# Altium footprint library SMD Button.PcbLib: 8 footprints
Each footprint in its own frame and in the unit in brackets; x right, y up, seen from the top. Pads: shape width x height; smd on the part's side, far side on the other; paste and mask are expansions set on the pad; w line width, h text height; cw(c..) or ccw(c..) is an arc to the next point about the centre after c.
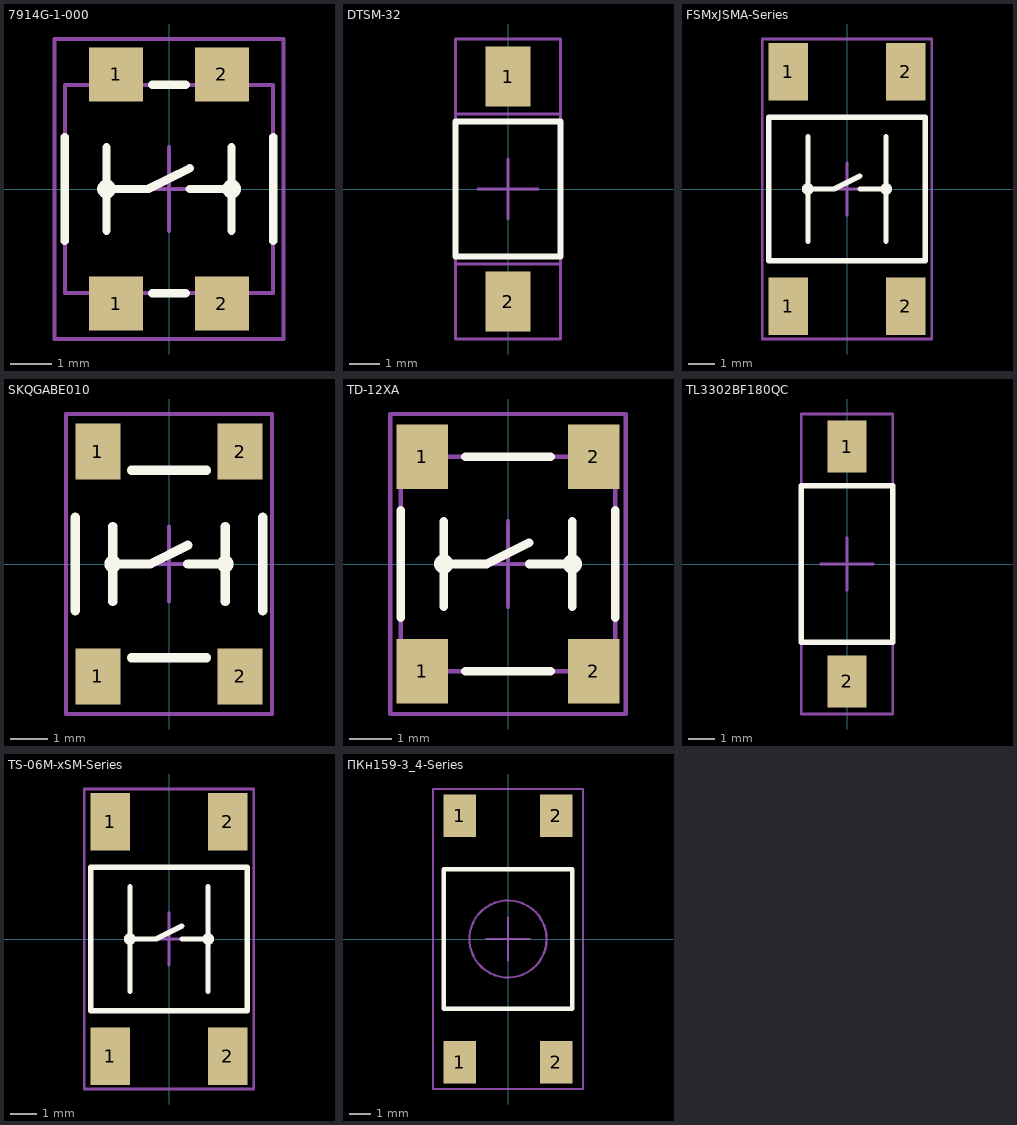
[diagram p0: the footprints below, top view; thin cyan lines are the x and y axes]

## 7914G-1-000 [mm]
pads (4):
  rect 1.3x1.3 smd: 1(-1.27,-2.75) 1(-1.27,2.75) 2(1.27,-2.75) 2(1.27,2.75)
Top Overlay:
  circle w0.25: c1.5,0 r0.1
  circle w0.25: c-1.5,0 r0.1
  lines w0.2: -2.5,-1.25 -2.5,1.25 ; -1.5,-1 -1.5,1 ; -1.5,0 -0.5,0 0.5,0.5 ; -0.4,-2.5 0.4,-2.5 ; -0.4,2.5 0.4,2.5 ; 0.5,0 1.5,0 ; 1.5,-1 1.5,1 ; 2.5,-1.25 2.5,1.25
Mechanical 7:
  lines w0.05: -2.75,-3.6 2.75,-3.6 2.75,3.6 -2.75,3.6 -2.75,-3.6
  text ".Designator" at -1.5,-0.5 h1.5
Mechanical 13:
  lines w0.1: -2.5,-2.5 2.5,-2.5 2.5,2.5 -2.5,2.5 -2.5,-2.5
Mechanical 15:
  lines w0.1: -1,0 1,0 ; 0,-1 0,1 ; -2.75,-3.6 2.75,-3.6 2.75,3.6 -2.75,3.6 -2.75,-3.6
3D body "CircuitWorks-TACT SWITCH 1_5 (TD-12XA).step": height 1.5, standoff -0.05, extent -2.45,-2.5 2.45,2.5

## DTSM-32 [mm] "1 contact, Surface, 0.05A, 250V, H=5mm"
height 5
pads (2):
  rect 1.5x2 smd: 1(0,3.75) 2(0,-3.75)
Top Overlay:
  lines w0.2: -1.75,-2.25 1.75,-2.25 1.75,2.25 -1.75,2.25 -1.75,-2.25
Mechanical 7:
  lines w0.05: -1.75,-5 1.75,-5 1.75,5 -1.75,5 -1.75,-5
  text ".Designator" at -1.5,-0.5 h1.5
Mechanical 13:
  lines w0.1: -1.75,-2.5 1.75,-2.5 1.75,2.5 -1.75,2.5 -1.75,-2.5
Mechanical 15:
  lines w0.1: -1,0 1,0 ; 0,-1 0,1 ; -1.75,-5 -1.75,5 1.75,5 1.75,-5 -1.75,-5
3D body "User Library-dtsm-32n.step": height 5.5, standoff 0, extent -1.75,-4 1.75,4

## FSMxJSMA-Series [mm] "Surface, Tactile Swith, 1 contact group, 0.05A 12V"
height 6
pads (4):
  rect 1.5x2.2 smd: 1(-2.25,-4.5) 1(-2.25,4.5) 2(2.25,-4.5) 2(2.25,4.5)
Top Overlay:
  circle w0.25: c-1.5,0 r0.1
  circle w0.25: c1.5,0 r0.1
  lines w0.2: -1.5,-2 -1.5,2 ; -1.5,0 -0.5,0 0.5,0.5 ; 0.5,0 1.5,0 ; 1.5,-2 1.5,2 ; -3,-2.75 -3,2.75 3,2.75 3,-2.75 -3,-2.75
Mechanical 7:
  lines w0.05: -3.25,-5.75 3.25,-5.75 3.25,5.75 -3.25,5.75 -3.25,-5.75
  text ".Designator" at -1.5,-0.5 h1.5
Mechanical 13:
  lines w0.1: -3,-2.75 -3,2.75 3,2.75 3,-2.75 -3,-2.75
Mechanical 15:
  lines w0.1: -1,0 1,0 ; 0,-1 0,1 ; -3.25,-5.75 -3.25,5.75 3.25,5.75 3.25,-5.75 -3.25,-5.75
3D body "User Library-switch.step": height 5.01, standoff 0.01, extent -3,-4.5 3,4.5

## SKQGABE010 [mm]
height 1.5
pads (4):
  rect 1.2x1.5 smd: 1(-1.9,-3) 1(-1.9,3) 2(1.9,-3) 2(1.9,3)
Top Overlay:
  circle w0.25: c1.5,0 r0.1
  circle w0.25: c-1.5,0 r0.1
  lines w0.25: -2.5,-1.25 -2.5,1.25 ; -1.5,-1 -1.5,1 ; -1.5,0 -0.5,0 0.5,0.5 ; -1,-2.5 1,-2.5 ; -1,2.5 1,2.5 ; 0.5,0 1.5,0 ; 1.5,-1 1.5,1 ; 2.5,-1.25 2.5,1.25
Mechanical 7:
  lines w0.05: -2.75,-4 2.75,-4 2.75,4 -2.75,4 -2.75,-4
  text ".Designator" at -1.5,-0.5 h1.5
Mechanical 15:
  lines w0.1: -1,0 1,0 ; 0,-1 0,1 ; -2.75,-4 2.75,-4 2.75,4 -2.75,4 -2.75,-4
3D body "User Library-button1.step": height 1.42, standoff 0.02, extent -2.65,-3.2 2.65,3.203

## TD-12XA [mm]
pads (4):
  rect 1.2x1.5 smd: 1(-2,-2.5) 1(-2,2.5) 2(2,-2.5) 2(2,2.5)
Top Overlay:
  circle w0.25: c1.5,0 r0.1
  circle w0.25: c-1.5,0 r0.1
  lines w0.2: -2.5,-1.25 -2.5,1.25 ; -1.5,-1 -1.5,1 ; -1.5,0 -0.5,0 0.5,0.5 ; -1,-2.5 1,-2.5 ; -1,2.5 1,2.5 ; 0.5,0 1.5,0 ; 1.5,-1 1.5,1 ; 2.5,-1.25 2.5,1.25
Mechanical 7:
  lines w0.05: -2.75,-3.5 2.75,-3.5 2.75,3.5 -2.75,3.5 -2.75,-3.5
  text ".Designator" at -1.5,-0.5 h1.5
Mechanical 13:
  lines w0.1: -2.5,-2.5 2.5,-2.5 2.5,2.5 -2.5,2.5 -2.5,-2.5
Mechanical 15:
  lines w0.1: -1,0 1,0 ; 0,-1 0,1 ; -2.75,-3.5 2.75,-3.5 2.75,3.5 -2.75,3.5 -2.75,-3.5
3D body "CircuitWorks-TACT SWITCH 1_5 (TD-12XA).step": height 1.5, standoff -0.05, extent -2.45,-2.5 2.45,2.5

## TL3302BF180QC [mm]
pads (2):
  rect 1.5x2 smd: 1(0,4.5) 2(0,-4.5)
Top Overlay:
  lines w0.2: -1.75,-3 1.75,-3 1.75,3 -1.75,3 -1.75,-3
Mechanical 7:
  lines w0.05: -1.75,-5.75 1.75,-5.75 1.75,5.75 -1.75,5.75 -1.75,-5.75
  text ".Designator" at -1.5,-0.5 h1.5
Mechanical 13:
  lines w0.1: -1.75,-3 -1.75,3 1.75,3 1.75,-3 -1.75,-3
Mechanical 15:
  lines w0.1: -1,0 1,0 ; 0,-1 0,1 ; -1.75,-5.75 -1.75,5.75 1.75,5.75 1.75,-5.75 -1.75,-5.75
3D body "User Library-TL3302BF180QC.step": height 5.01, standoff 0.01, extent -1.75,-5.2 1.75,5.2

## TS-06M-xSM-Series [mm] "Surface, Tactile Swith, 1 contact group, 0.05A 12V"
height 7
pads (4):
  rect 1.5x2.2 smd: 1(-2.25,-4.5) 1(-2.25,4.5) 2(2.25,-4.5) 2(2.25,4.5)
Top Overlay:
  circle w0.25: c1.5,0 r0.1
  circle w0.25: c-1.5,0 r0.1
  lines w0.2: -1.5,-2 -1.5,2 ; -1.5,0 -0.5,0 0.5,0.5 ; 0.5,0 1.5,0 ; 1.5,-2 1.5,2 ; -3,-2.75 3,-2.75 3,2.75 -3,2.75 -3,-2.75
Mechanical 7:
  lines w0.05: -3.25,-5.75 3.25,-5.75 3.25,5.75 -3.25,5.75 -3.25,-5.75
  text ".Designator" at -1.5,-0.5 h1.5
Mechanical 13:
  lines w0.1: -3,-2.75 3,-2.75 3,2.75 -3,2.75 -3,-2.75
Mechanical 15:
  lines w0.1: -1,0 1,0 ; 0,-1 0,1 ; -3.25,-5.75 3.25,-5.75 3.25,5.75 -3.25,5.75 -3.25,-5.75
3D body "User Library-SWT-34.step": height 7.33, standoff -0.02, extent -3,-5.177 3,5.177

## ПКн159-3_4-Series [mm]
height 7.2
pads (4):
  rect 1.5x2 smd: 1(-2.25,-5.75) 1(-2.25,5.75) 2(2.25,-5.75) 2(2.25,5.75)
Top Overlay:
  lines w0.2: -3,-3.25 3,-3.25 3,3.25 -3,3.25 -3,-3.25
Mechanical 7:
  lines w0.05: -3.5,-7 3.5,-7 3.5,7 -3.5,7 -3.5,-7
  text ".Designator" at -1.5,-0.5 h1.5
Mechanical 13:
  circle w0.1: c0,0 r1.8
  lines w0.1: -3,-3.25 3,-3.25 3,3.25 -3,3.25 -3,-3.25
Mechanical 15:
  lines w0.1: -1,0 1,0 ; 0,-1 0,1 ; -3.5,-7 3.5,-7 3.5,7 -3.5,7 -3.5,-7
3D body "User Library-SWT-34.step": height 7.33, standoff -0.02, extent -3,-5.177 3,5.177